# Altium footprint library OSP_Footprints.PcbLib: 50 footprints (part 1 of 4)
Each footprint in its own frame and in the unit in brackets; x right, y up, seen from the top. Pads: shape width x height; smd on the part's side, far side on the other; paste and mask are expansions set on the pad; w line width, h text height; cw(c..) or ccw(c..) is an arc to the next point about the centre after c.
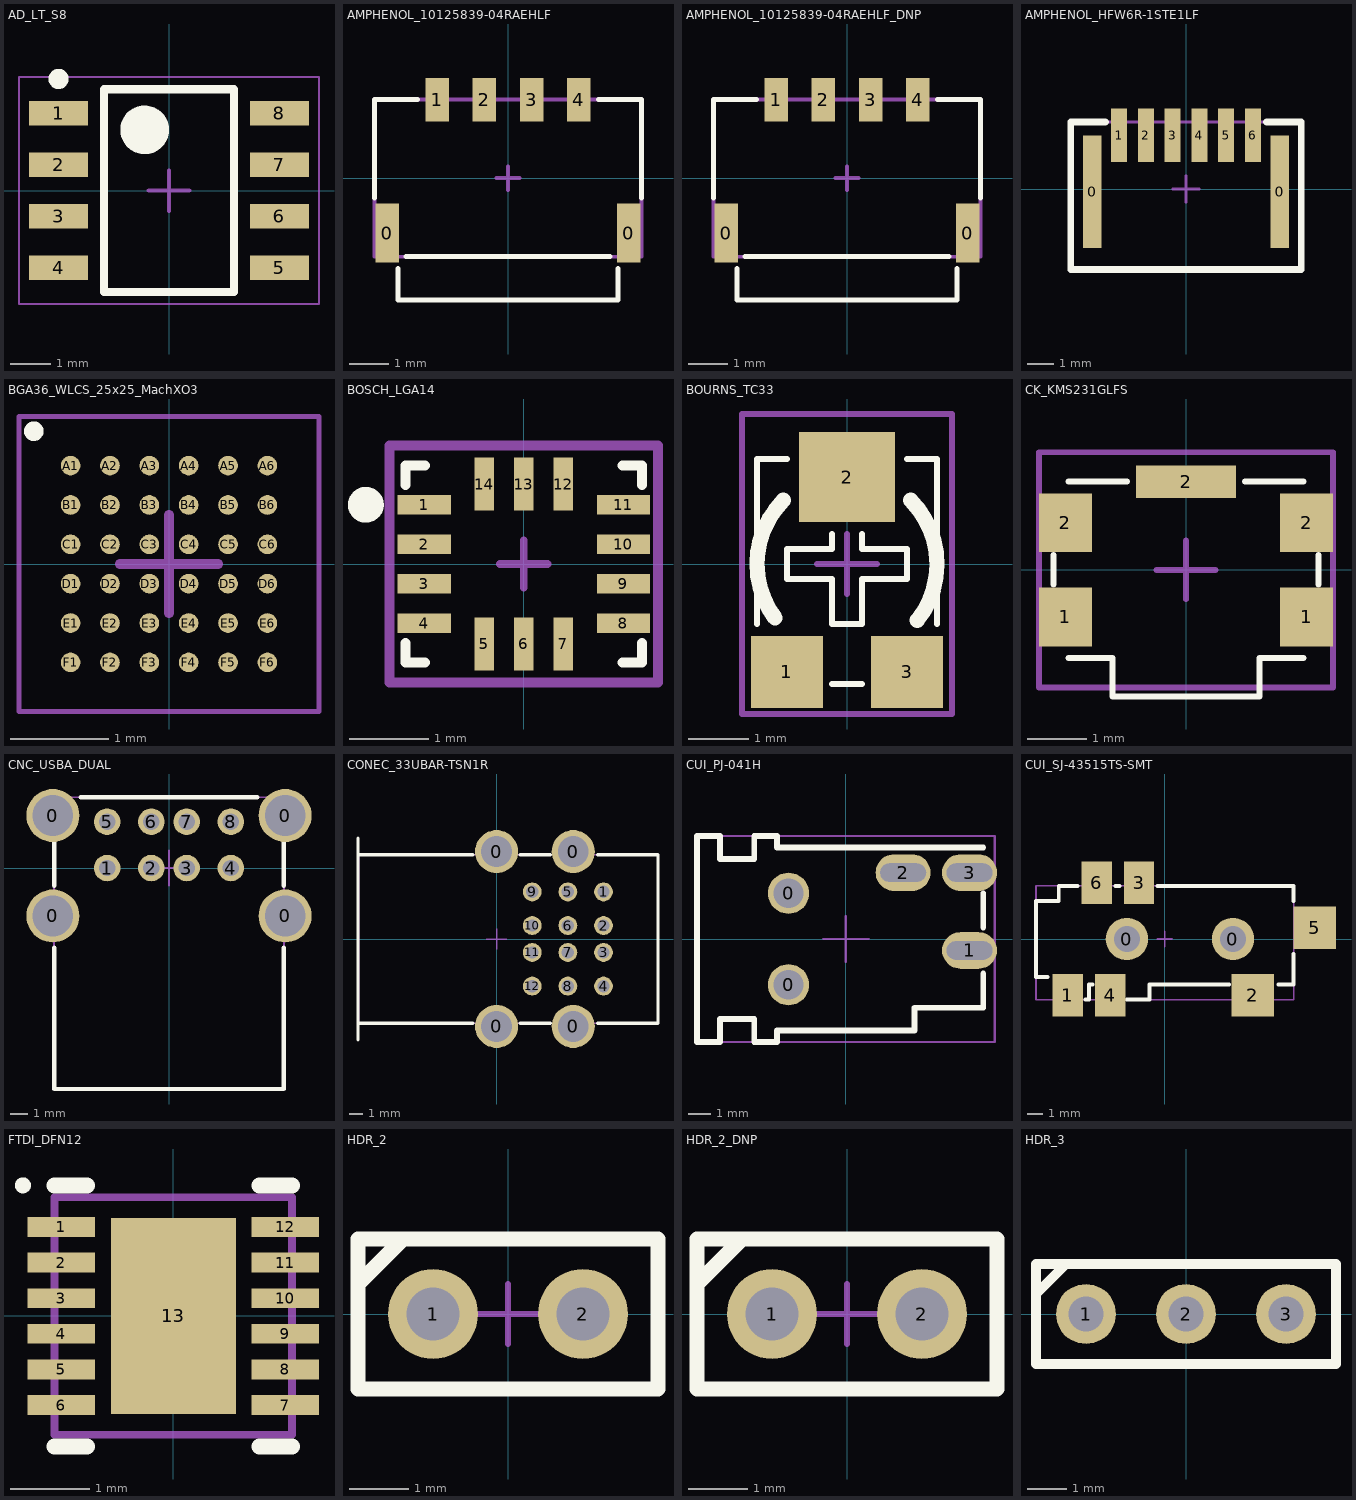
[diagram p0: the footprints below, top view; thin cyan lines are the x and y axes]

## AD_LT_S8 [mm] "SOIC8 by Analog Devices / Linear Technology"
height 1.76
pads (8):
  rect 1.45x0.6 smd: 1(-2.725,1.905) 2(-2.725,0.635) 3(-2.725,-0.635) 4(-2.725,-1.905) 5(2.725,-1.905) 6(2.725,-0.635) 7(2.725,0.635) 8(2.725,1.905)
Top Overlay:
  circle w0.6: c-0.6,1.5 r0.3
  circle w0.25: c-2.725,2.755 r0.125
  lines w0.2: -1.6,-2.5 1.6,-2.5 1.6,2.5 -1.6,2.5 -1.6,-2.5
Mechanical 15:
  lines w0.05: -3.7,-2.8 3.7,-2.8 3.7,2.8 -3.7,2.8 -3.7,-2.8
  lines w0.1: -0.5,0 0.5,0 ; 0,-0.5 0,0.5
3D body "AD_LT_S8.step": height 1.75, standoff 0, extent -2.997,-2.5 2.997,2.5

## AMPHENOL_10125839-04RAEHLF [mm] "Amphenol 10125839-04RAEHLF 4-pin shallow SMD connector"
height 2.5
pads (6):
  rect 0.6x1.5 smd: 0(-3.07,-1.4) 0(3.07,-1.4)
  rect 0.6x1.1 smd: 1(-1.8,2) 2(-0.6,2) 3(0.6,2) 4(1.8,2)
Top Overlay:
  lines w0.127: -3.4,-0.5 -3.4,2 -2.3,2 ; -2.8,-2.3 -2.8,-3.1 2.8,-3.1 2.8,-2.3 ; -2.6,-2 2.6,-2 ; 2.3,2 3.4,2 3.4,-0.5
Mechanical 15:
  lines w0.1: -0.3,0 0.3,0 ; 0,-0.3 0,0.3 ; -3.4,-2 -3.4,2 3.4,2 3.4,-2 -3.4,-2
3D body: height 1.8, standoff 1.1, extent 1.7,0.4 1.9,1.7
3D body: height 1.8, standoff 1.1, extent 0.5,0.4 0.7,1.7
3D body: height 1.8, standoff 1.1, extent -0.7,0.4 -0.5,1.7
3D body: height 1.8, standoff 1.1, extent -1.9,0.4 -1.7,1.7
3D body: height 2.4, standoff 0.1, extent -3.4,-2 3.4,2
3D body: height 0.4, standoff 0.05, extent -3.4,-2 3.4,2
3D body: height 2, standoff 0, extent 1.7,1.9 1.9,2.2
3D body: height 2, standoff 0, extent 0.5,1.9 0.7,2.2
3D body: height 2, standoff 0, extent -0.7,1.9 -0.5,2.2
3D body: height 2, standoff 0, extent -1.9,1.9 -1.7,2.2
3D body: height 2.5, standoff 2.2, extent -3.4,-2 3.4,2

## AMPHENOL_10125839-04RAEHLF_DNP [mm] "Amphenol 10125839-04RAEHLF 4-pin shallow SMD connector (DO NOT POPULATE)"
pads (6):
  rect 0.6x1.5 smd: 0(-3.07,-1.4) 0(3.07,-1.4)
  rect 0.6x1.1 smd: 1(-1.8,2) 2(-0.6,2) 3(0.6,2) 4(1.8,2)
Top Overlay:
  lines w0.127: -3.4,-0.5 -3.4,2 -2.3,2 ; -2.8,-2.3 -2.8,-3.1 2.8,-3.1 2.8,-2.3 ; -2.6,-2 2.6,-2 ; 2.3,2 3.4,2 3.4,-0.5
Mechanical 15:
  lines w0.1: -0.3,0 0.3,0 ; 0,-0.3 0,0.3 ; -3.4,-2 -3.4,2 3.4,2 3.4,-2 -3.4,-2

## AMPHENOL_HFW6R-1STE1LF [mm] "Amphenol HFW6R-1STE1LF 6-pin flat flexible cable connector"
height 1.9
pads (8):
  rect 0.7x4.2 smd: 0(-3.5,-0.1) 0(3.5,-0.1)
  rect 0.6x2 smd: 1(-2.5,2) 2(-1.5,2) 3(-0.5,2) 4(0.5,2) 5(1.5,2) 6(2.5,2)
Top Overlay:
  lines w0.254: -3,2.5 -4.3,2.5 -4.3,-3 4.3,-3 4.3,2.5 3,2.5
Mechanical 15:
  lines w0.1: -0.5,0 0.5,0 ; 0,-0.5 0,0.5 ; -4.3,-3 -4.3,2.5 4.3,2.5 4.3,-3 -4.3,-3
3D body: height 1.9, standoff 0, extent -4.3,-3 4.3,2.5

## BGA36_WLCS_25x25_MachXO3 [mm] "Lattice MachXO3 WLCSP36"
height 0.58
pads (36):
  round 0.2 smd: A1(-1,1) A2(-0.6,1) A3(-0.2,1) A4(0.2,1) A5(0.6,1) A6(1,1) B1(-1,0.6) B2(-0.6,0.6) B3(-0.2,0.6) B4(0.2,0.6) B5(0.6,0.6) B6(1,0.6) C1(-1,0.2) C2(-0.6,0.2) C3(-0.2,0.2) C4(0.2,0.2) C5(0.6,0.2) C6(1,0.2) D1(-1,-0.2) D2(-0.6,-0.2) D3(-0.2,-0.2) D4(0.2,-0.2) D5(0.6,-0.2) D6(1,-0.2) E1(-1,-0.6) E2(-0.6,-0.6) E3(-0.2,-0.6) E4(0.2,-0.6) E5(0.6,-0.6) E6(1,-0.6) F1(-1,-1) F2(-0.6,-1) F3(-0.2,-1) F4(0.2,-1) F5(0.6,-1) F6(1,-1)
Top Overlay:
  circle w0.1: c-1.375,1.35 r0.05
Top Solder:
  rectangle: -1.1,-1.1 1.1,1.1
Mechanical 15:
  lines w0.05: -1.525,-1.5 1.525,-1.5 1.525,1.5 -1.525,1.5 -1.525,-1.5
  lines w0.1: -0.5,0 0.5,0 ; 0,-0.5 0,0.5
3D body "BGA36_WLCS_25x25_MachXO3.step": height 0.58, standoff 0, extent -1.27,-1.245 1.27,1.245

## BOSCH_LGA14 [mm] "Bosch BMI160"
height 0.83
pads (14):
  rect 0.675x0.25 smd: 1(-1.262,0.75) 2(-1.262,0.25) 3(-1.262,-0.25) 4(-1.262,-0.75) 8(1.262,-0.75) 9(1.262,-0.25) 10(1.262,0.25) 11(1.262,0.75)
  rect 0.25x0.675 smd: 5(-0.5,-1.012) 6(0,-1.012) 7(0.5,-1.012) 12(0.5,1.012) 13(0,1.012) 14(-0.5,1.012)
Top Overlay:
  circle w0.254: c-2,0.75 r0.1
  lines w0.127: -1.5,-1 -1.5,-1.25 -1.25,-1.25 ; -1.5,1 -1.5,1.25 -1.25,1.25 ; 1.25,-1.25 1.5,-1.25 1.5,-1 ; 1.25,1.25 1.5,1.25 1.5,1
Mechanical 15:
  lines w0.1: -0.3,0 0.3,0 ; 0,-0.3 0,0.3
  lines w0.127: -1.7,-1.5 -1.7,1.5 1.7,1.5 1.7,-1.5 -1.7,-1.5
3D body "QFN50P300X250X83-14N.step": height 0.83, standoff 0, extent -1.52,-1.27 1.52,1.27

## BOURNS_TC33 [mm] "TC33 3mm trimpot"
height 1.2
pads (3):
  rect 1.2x1.2 smd: 1(-1,-1.8) 3(1,-1.8)
  rect 1.6x1.5 smd: 2(0,1.45)
Top Overlay:
  lines w0.1: -1.5,-1 -1.5,1.75 -1,1.75 ; -0.25,-2 0.25,-2 ; -0.25,0.5 -0.25,0.25 -1,0.25 -1,-0.25 -0.25,-0.25 -0.25,-1 0.25,-1 0.25,-0.25 1,-0.25 1,0.25 0.25,0.25 0.25,0.5 ; 1,1.75 1.5,1.75 1.5,-1
  lines w0.254: -1.2,-0.9 cw(c0,0) -1.061,1.061 ; 1.061,1.061 cw(c0,0) 1.171,-0.937
Mechanical 15:
  lines w0.1: -0.5,0 0.5,0 ; 0,-0.5 0,0.5 ; -1.75,-2.5 1.75,-2.5 1.75,2.5 -1.75,2.5 -1.75,-2.5
3D body: height 0.8, standoff 0.1, extent -1.5,-2 1.5,1.75
3D body: height 2.1, standoff 0.9, extent -1.488,-1.497 1.5,1.497

## CK_KMS231GLFS [mm] "C&K KMS231GLFS Right-angle SMT Tact Switch"
height 1.42
pads (5):
  rect 0.9x1 smd: 1(-2.05,-0.8) 1(2.05,-0.8) 2(-2.05,0.8) 2(2.05,0.8)
  rect 1.7x0.55 smd: 2(0,1.5)
Top Overlay:
  lines w0.1: -2.25,-0.25 -2.25,0.25 ; -2,-1.5 -1.25,-1.5 -1.25,-2.15 1.25,-2.15 1.25,-1.5 2,-1.5 ; -2,1.5 -1,1.5 ; 1,1.5 2,1.5 ; 2.25,-0.25 2.25,0.25
Mechanical 15:
  lines w0.1: -0.5,0 0.5,0 ; 0,-0.5 0,0.5 ; -2.5,-2 -2.5,2 2.5,2 2.5,-2 -2.5,-2
3D body: height 1.42, standoff 0, extent -2.25,-1.5 2.25,1.5
3D body: height 1.4, standoff 0.3, extent -1.25,-2.1 1.25,-1

## CNC_USBA_DUAL [mm] "2x USB A ports, 1002-004-01010"
height 15.8
pads (12):
  round 3 hole 2.3 mask+0.05: 0(-6.57,-2.71) 0(-6.57,2.97) 0(6.57,-2.71) 0(6.57,2.97)
  round 1.5 hole 0.92 mask+0.05: 1(-3.5,0) 2(-1,0) 3(1,0) 4(3.5,0) 5(-3.5,2.62) 6(-1,2.62) 7(1,2.62) 8(3.5,2.62)
Top Overlay:
  lines w0.254: -6.5,-4.5 -6.5,-12.5 6.5,-12.5 6.5,-4.5 ; -6.5,-1 -6.5,1.5 ; -5,4 5,4 ; 6.5,-1 6.5,1.5
Mechanical 15:
  lines w0.1: -1,0 1,0 ; 0,-1 0,1 ; -6.5,-12.5 6.5,-12.5 6.5,4 -6.5,4 -6.5,-12.5
3D body: height 15.8, standoff 0.2, extent -6.5,-12.5 6.5,4

## CONEC_33UBAR-TSN1R [mm] "3x USB A port"
height 24.45
pads (16):
  round 3.2 hole 2.3: 0(0,-6.5) 0(0,6.5) 0(5.7,-6.5) 0(5.7,6.5)
  round 1.4 hole 0.92: 1(7.95,3.5) 2(7.95,1) 3(7.95,-1) 4(7.95,-3.5) 5(5.3,3.5) 6(5.3,1) 7(5.3,-1) 8(5.3,-3.5) 9(2.65,3.5) 10(2.65,1) 11(2.65,-1) 12(2.65,-3.5)
Top Overlay:
  lines w0.254: -10.3,-7.5 -10.3,7.5 ; -10.3,-6.25 -1.75,-6.25 ; -10.3,6.25 -1.75,6.25 ; 1.75,-6.25 4,-6.25 ; 1.75,6.25 4,6.25 ; 7.5,-6.25 12,-6.25 12,6.25 7.5,6.25
Mechanical 15:
  lines w0.1: -0.75,0 0.75,0 ; 0,-0.75 0,0.75 ; -10.25,-6.25 -10.25,6.25 12,6.25 12,-6.25 -10.25,-6.25
3D body: height 23.1, standoff 0.9, extent -10.25,-6.25 12,6.25
3D body: height 24.45, standoff 0, extent -10.5,-7.5 -10,7.5

## CUI_PJ-041H [mm] "1.65mm DC power jack"
height 6
pads (5):
  round 1.8 hole 1.3: 0(-2.5,-2) 0(-2.5,2)
  oval 2.4x1.6 hole 0.8 slot 2 at 0 deg: 1(5.4,-0.5) 2(2.5,2.9) 3(5.4,2.9)
Top Overlay:
  lines w0.254: 6,-1.5 6,-3 3,-3 3,-4 -3,-4 -3,-4.5 -4,-4.5 -4,-3.5 -5.5,-3.5 -5.5,-4.5 -6.5,-4.5 -6.5,-0.5 -6.5,4.5 -5.5,4.5 -5.5,3.5 -4,3.5 -4,4.5 -3,4.5 -3,4 6,4 ; 6,0.5 6,2
Mechanical 15:
  lines w0.1: -1,0 1,0 ; 0,-1 0,1 ; -6.5,-4.5 -6.5,4.5 6.5,4.5 6.5,-4.5 -6.5,-4.5
3D body: height 6, standoff 0, extent -6.5,-4.5 6,4.5

## CUI_SJ-43515TS-SMT [mm] "CUI SJ-43515TS-SMT 4-pos Switched Headphone Jack"
height 5
pads (8):
  round 2.8 hole 1.7: 0(-2.5,0) 0(4.5,0)
  rect 2x2.8 smd: 1(-6.4,-3.7) 3(-1.7,3.7) 4(-3.6,-3.7) 6(-4.5,3.7)
  rect 2.8x2.8 smd: 2(5.8,-3.7) 5(9.9,0.75)
Top Overlay:
  lines w0.254: -7.75,-2.5 -8.5,-2.5 -8.5,2.5 -7,2.5 -7,3.5 -5.75,3.5 ; -5.25,-4 -5,-4 -5,-3 -4.75,-3 ; -3.25,3.5 -3,3.5 ; -2.5,-4 -1,-4 -1,-3 4.25,-3 ; -0.5,3.5 8.5,3.5 8.5,2.5 ; 7.5,-3 8.5,-3 8.5,-1
Mechanical 15:
  lines w0.1: -0.5,0 0.5,0 ; 0,-0.5 0,0.5 ; -8.5,-4 -8.5,3.5 8.5,3.5 8.5,-4 -8.5,-4
3D body: height 0.5, standoff 0, extent -7,-4.5 -6,-3
3D body: height 0.5, standoff 0, extent -4,-4.5 -3,-3
3D body: height 0.5, standoff 0, extent 5,-4 6.5,-3
3D body: height 0.5, standoff 0, extent 8.5,0 10.5,1.5
3D body: height 0.5, standoff 0, extent -2,3.5 -1,4.5
3D body: height 0.5, standoff 0, extent -5,3.5 -4,4.5
3D body: height 5, standoff 0, extent -8.5,-4 8.5,3.5

## FTDI_DFN12 [mm] "DFN/SON"
height 0.8
pads (13):
  rect 0.85x0.25 smd: 1(-1.415,1.125) 2(-1.415,0.675) 3(-1.415,0.225) 4(-1.415,-0.225) 5(-1.415,-0.675) 6(-1.415,-1.125) 7(1.415,-1.125) 8(1.415,-0.675) 9(1.415,-0.225) 10(1.415,0.225) 11(1.415,0.675) 12(1.415,1.125)
  rect 1.58x2.48 smd: 13(0,0)
Top Overlay:
  circle w0.1: c-1.9,1.65 r0.05
  lines w0.2: -1.5,-1.65 -1.09,-1.65 ; -1.5,1.65 -1.09,1.65 ; 1.09,-1.65 1.5,-1.65 ; 1.09,1.65 1.5,1.65
Mechanical 15:
  lines w0.1: -0.5,0 0.5,0 ; 0,-0.5 0,0.5 ; -1.5,-1.5 1.5,-1.5 1.5,1.5 -1.5,1.5 -1.5,-1.5
3D body: height 0.8, standoff 0.02, extent -1.5,-1.5 1.5,1.5

## HDR_2 [mil] "2-pin 0.1\" header"
height 400
pads (2):
  round 60 hole 35.43: 1(-50,0) 2(50,0)
Top Overlay:
  lines w10: -100,20 -70,50 ; -100,-50 100,-50 100,50 -100,50 -100,-50
Mechanical 15:
  lines w3.94: -20,0 20,0 ; 0,-20 0,20 ; -100,-50 100,-50 100,50 -100,50 -100,-50
3D body: height 100, standoff 0, extent -100,-50 100,50
3D body: height 400, standoff -80, extent -65,-15 -35,15
3D body: height 400, standoff -80, extent 35,-15 65,15

## HDR_2_DNP [mil] "2-pin 0.1\" header (no model)"
pads (2):
  round 60 hole 35.43: 1(-50,0) 2(50,0)
Top Overlay:
  lines w10: -100,20 -70,50 ; -100,-50 -100,50 100,50 100,-50 -100,-50
Mechanical 15:
  lines w3.94: -20,0 20,0 ; 0,-20 0,20 ; -100,-50 -100,50 100,50 100,-50 -100,-50

## HDR_3 [mil] "3-pin 0.1\" header"
height 400
pads (3):
  round 60 hole 35.43: 1(-100,0) 2(0,0) 3(100,0)
Top Overlay:
  lines w10: -150,20 -120,50 ; -150,-50 150,-50 150,50 -150,50 -150,-50
Mechanical 15:
  lines w3.94: -20,0 20,0 ; 0,-20 0,20 ; -150,-50 150,-50 150,50 -150,50 -150,-50
3D body: height 100, standoff 0, extent -150,-50 150,50
3D body: height 400, standoff -80, extent -115,-15 -85,15
3D body: height 400, standoff -80, extent -15,-15 15,15
3D body: height 400, standoff -80, extent 85,-15 115,15